# Altium footprint library B32921C3103M289.PcbLib: 1 footprints
Each footprint in its own frame and in the unit in brackets; x right, y up, seen from the top. Pads: shape width x height; smd on the part's side, far side on the other; paste and mask are expansions set on the pad; w line width, h text height; cw(c..) or ccw(c..) is an arc to the next point about the centre after c.
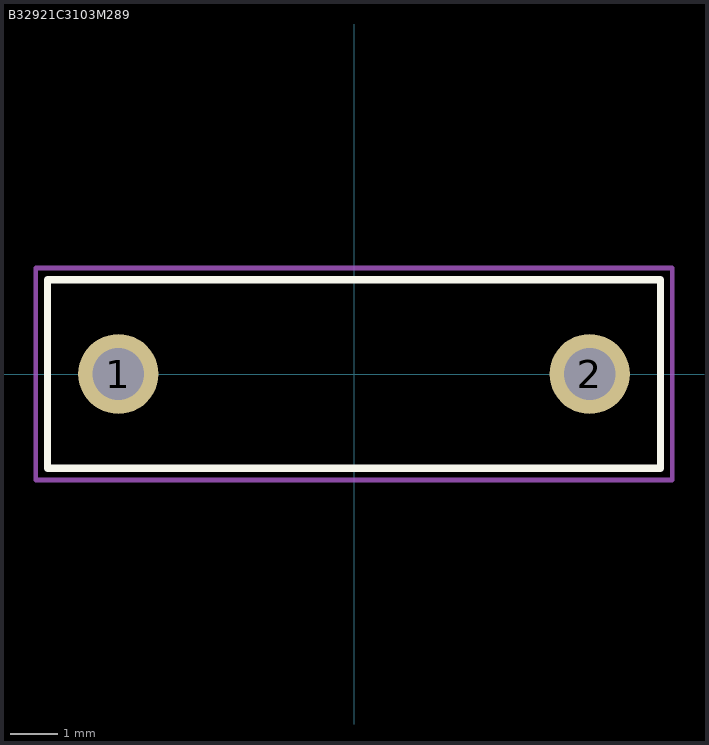
[diagram p0: the footprint, top view; thin cyan lines are the x and y axes]

## B32921C3103M289 [mm]
pads (2):
  round 1.7 hole 1.1: 1(-5,0) 2(5,0)
Top Overlay:
  lines w0.15: -6.5,-2 -6.5,2 6.5,2 6.5,-2 -6.5,-2
Mechanical 13:
  lines w0.1: -6.5,-2 6.5,-2 6.5,2 -6.5,2 -6.5,-2
Mechanical 15:
  lines w0.1: -6.75,-2.25 -6.75,2.25 6.75,2.25 6.75,-2.25 -6.75,-2.25
3D body: height 9.5, standoff -1.5, extent -6.5,-2 6.5,2.005